# EAGLE library part STM32H743-XIO (library sjg-stm32)
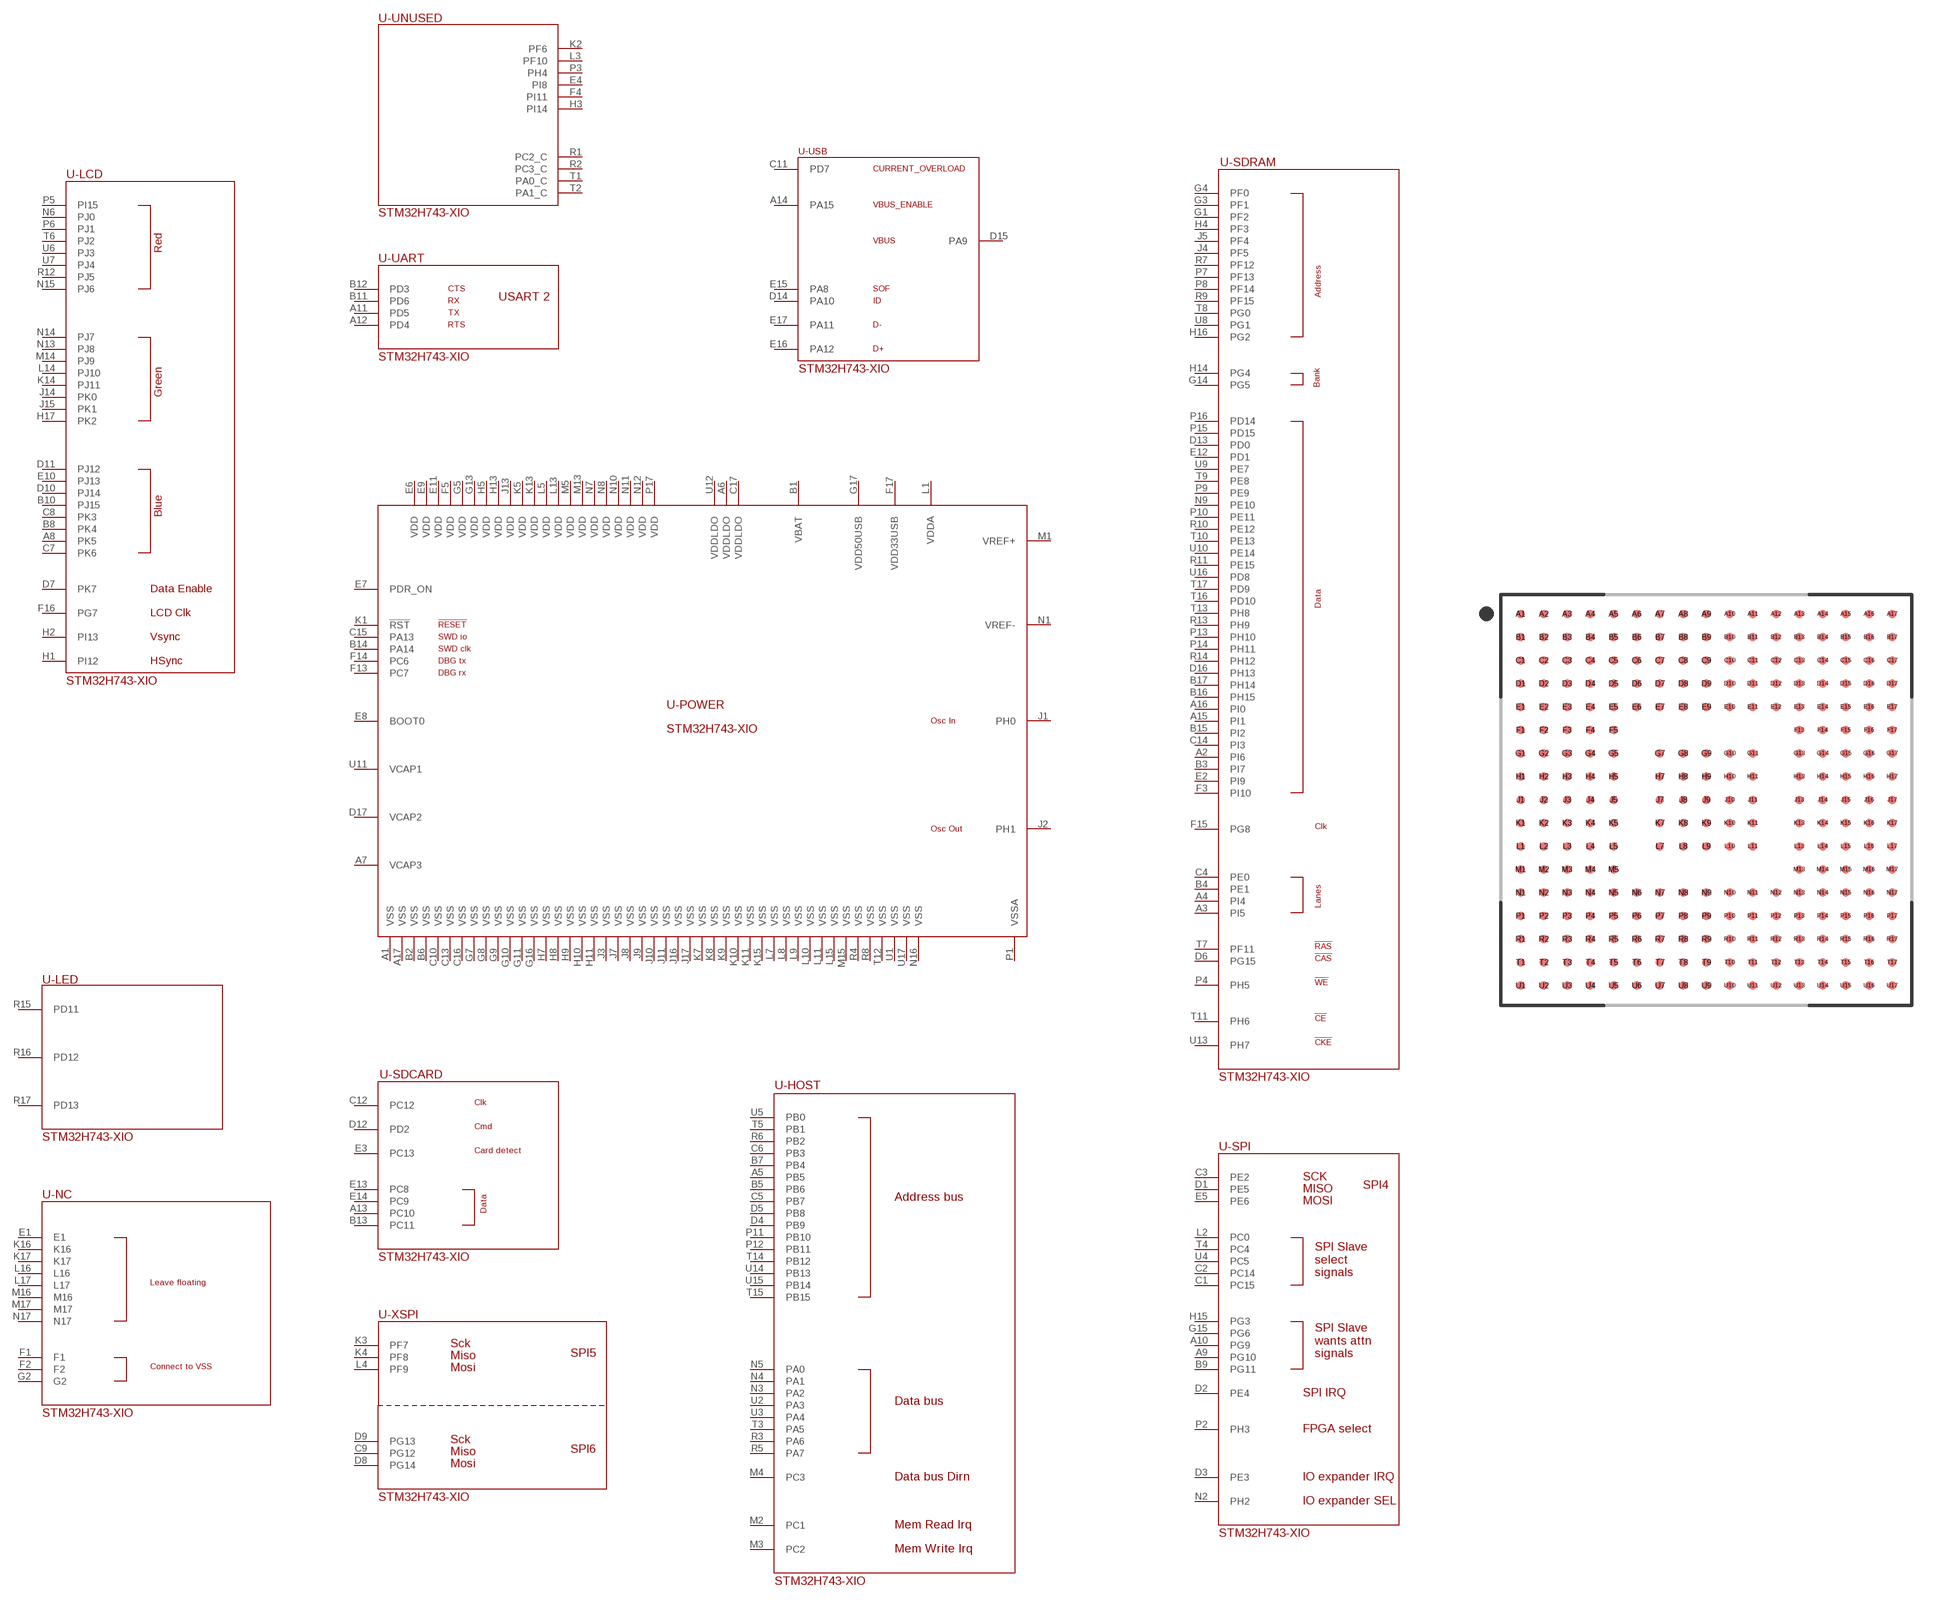
[diagram p8: symbol with the pads of BGA289C80P17X17_1400X1400X110; footprint BGA289C80P17X17_1400X1400X110]

Designator prefix -; gates -LED=STM32H743-XIO-LED -NC=STM32H743-XIO-NC -UART=STM32H743-XIO-USART -POWER=STM32H743-XIO-PWR -SDCARD=STM32H743-XIO-SDCARD -SDRAM=STM32H743-XIO-SDRAM -XSPI=STM32H743-XIO-XSPI -UNUSED=STM32H743-XIO-UNUSED -USB=STM32H743-XIO-USB -HOST=STM32H743-XIO-HOST -LCD=STM32H743-XIO-LCD -SPI=STM32H743-XIO-SPI

## STM32H743-XIO  [BGA289C80P17X17_1400X1400X110]
A1  -POWER:VSS
A2  -SDRAM:PI6
A3  -SDRAM:PI5
A4  -SDRAM:PI4
A5  -HOST:PB5
A6  -POWER:VDDLDO
A7  -POWER:VCAP3
A8  -LCD:PK5
A9  -SPI:PG10
A10  -SPI:PG9
A11  -UART:PD5
A12  -UART:PD4
A13  -SDCARD:PC10
A14  -USB:PA15
A15  -SDRAM:PI1
A16  -SDRAM:PI0
A17  -POWER:VSS
B1  -POWER:VBAT
B2  -POWER:VSS
B3  -SDRAM:PI7
B4  -SDRAM:PE1
B5  -HOST:PB6
B6  -POWER:VSS
B7  -HOST:PB4
B8  -LCD:PK4
B9  -SPI:PG11
B10  -LCD:PJ15
B11  -UART:PD6
B12  -UART:PD3
B13  -SDCARD:PC11
B14  -POWER:PA14
B15  -SDRAM:PI2
B16  -SDRAM:PH15
B17  -SDRAM:PH14
C1  -SPI:PC15
C2  -SPI:PC14
C3  -SPI:PE2
C4  -SDRAM:PE0
C5  -HOST:PB7
C6  -HOST:PB3
C7  -LCD:PK6
C8  -LCD:PK3
C9  -XSPI:PG12
C10  -POWER:VSS
C11  -USB:PD7
C12  -SDCARD:PC12
C13  -POWER:VSS
C14  -SDRAM:PI3
C15  -POWER:PA13
C16  -POWER:VSS
C17  -POWER:VDDLDO
D1  -SPI:PE5
D2  -SPI:PE4
D3  -SPI:PE3
D4  -HOST:PB9
D5  -HOST:PB8
D6  -SDRAM:PG15
D7  -LCD:PK7
D8  -XSPI:PG14
D9  -XSPI:PG13
D10  -LCD:PJ14
D11  -LCD:PJ12
D12  -SDCARD:PD2
D13  -SDRAM:PD0
D14  -USB:PA10
D15  -USB:PA9
D16  -SDRAM:PH13
D17  -POWER:VCAP2
E1  -NC:E1
E2  -SDRAM:PI9
E3  -SDCARD:PC13
E4  -UNUSED:PI8
E5  -SPI:PE6
E6  -POWER:VDD
E7  -POWER:PDR_ON
E8  -POWER:BOOT0
E9  -POWER:VDD
E10  -LCD:PJ13
E11  -POWER:VDD
E12  -SDRAM:PD1
E13  -SDCARD:PC8
E14  -SDCARD:PC9
E15  -USB:PA8
E16  -USB:PA12
E17  -USB:PA11
F1  -NC:F1
F2  -NC:F2
F3  -SDRAM:PI10
F4  -UNUSED:PI11
F5  -POWER:VDD
F13  -POWER:PC7
F14  -POWER:PC6
F15  -SDRAM:PG8
F16  -LCD:PG7
F17  -POWER:VDD33USB
G1  -SDRAM:PF2
G2  -NC:G2
G3  -SDRAM:PF1
G4  -SDRAM:PF0
G5  -POWER:VDD
G7  -POWER:VSS
G8  -POWER:VSS
G9  -POWER:VSS
G10  -POWER:VSS
G11  -POWER:VSS
G13  -POWER:VDD
G14  -SDRAM:PG5
G15  -SPI:PG6
G16  -POWER:VSS
G17  -POWER:VDD50USB
H1  -LCD:PI12
H2  -LCD:PI13
H3  -UNUSED:PI14
H4  -SDRAM:PF3
H5  -POWER:VDD
H7  -POWER:VSS
H8  -POWER:VSS
H9  -POWER:VSS
H10  -POWER:VSS
H11  -POWER:VSS
H13  -POWER:VDD
H14  -SDRAM:PG4
H15  -SPI:PG3
H16  -SDRAM:PG2
H17  -LCD:PK2
J1  -POWER:PH0
J2  -POWER:PH1
J3  -POWER:VSS
J4  -SDRAM:PF5
J5  -SDRAM:PF4
J7  -POWER:VSS
J8  -POWER:VSS
J9  -POWER:VSS
J10  -POWER:VSS
J11  -POWER:VSS
J13  -POWER:VDD
J14  -LCD:PK0
J15  -LCD:PK1
J16  -POWER:VSS
J17  -POWER:VSS
K1  -POWER:!RST!
K2  -UNUSED:PF6
K3  -XSPI:PF7
K4  -XSPI:PF8
K5  -POWER:VDD
K7  -POWER:VSS
K8  -POWER:VSS
K9  -POWER:VSS
K10  -POWER:VSS
K11  -POWER:VSS
K13  -POWER:VDD
K14  -LCD:PJ11
K15  -POWER:VSS
K16  -NC:K16
K17  -NC:K17
L1  -POWER:VDDA
L2  -SPI:PC0
L3  -UNUSED:PF10
L4  -XSPI:PF9
L5  -POWER:VDD
L7  -POWER:VSS
L8  -POWER:VSS
L9  -POWER:VSS
L10  -POWER:VSS
L11  -POWER:VSS
L13  -POWER:VDD
L14  -LCD:PJ10
L15  -POWER:VSS
L16  -NC:L16
L17  -NC:L17
M1  -POWER:VREF+
M2  -HOST:PC1
M3  -HOST:PC2
M4  -HOST:PC3
M5  -POWER:VDD
M13  -POWER:VDD
M14  -LCD:PJ9
M15  -POWER:VSS
M16  -NC:M16
M17  -NC:M17
N1  -POWER:VREF-
N2  -SPI:PH2
N3  -HOST:PA2
N4  -HOST:PA1
N5  -HOST:PA0
N6  -LCD:PJ0
N7  -POWER:VDD
N8  -POWER:VDD
N9  -SDRAM:PE10
N10  -POWER:VDD
N11  -POWER:VDD
N12  -POWER:VDD
N13  -LCD:PJ8
N14  -LCD:PJ7
N15  -LCD:PJ6
N16  -POWER:VSS
N17  -NC:N17
P1  -POWER:VSSA
P2  -SPI:PH3
P3  -UNUSED:PH4
P4  -SDRAM:PH5
P5  -LCD:PI15
P6  -LCD:PJ1
P7  -SDRAM:PF13
P8  -SDRAM:PF14
P9  -SDRAM:PE9
P10  -SDRAM:PE11
P11  -HOST:PB10
P12  -HOST:PB11
P13  -SDRAM:PH10
P14  -SDRAM:PH11
P15  -SDRAM:PD15
P16  -SDRAM:PD14
P17  -POWER:VDD
R1  -UNUSED:PC2_C
R2  -UNUSED:PC3_C
R3  -HOST:PA6
R4  -POWER:VSS
R5  -HOST:PA7
R6  -HOST:PB2
R7  -SDRAM:PF12
R8  -POWER:VSS
R9  -SDRAM:PF15
R10  -SDRAM:PE12
R11  -SDRAM:PE15
R12  -LCD:PJ5
R13  -SDRAM:PH9
R14  -SDRAM:PH12
R15  -LED:PD11
R16  -LED:PD12
R17  -LED:PD13
T1  -UNUSED:PA0_C
T2  -UNUSED:PA1_C
T3  -HOST:PA5
T4  -SPI:PC4
T5  -HOST:PB1
T6  -LCD:PJ2
T7  -SDRAM:PF11
T8  -SDRAM:PG0
T9  -SDRAM:PE8
T10  -SDRAM:PE13
T11  -SDRAM:PH6
T12  -POWER:VSS
T13  -SDRAM:PH8
T14  -HOST:PB12
T15  -HOST:PB15
T16  -SDRAM:PD10
T17  -SDRAM:PD9
U1  -POWER:VSS
U2  -HOST:PA3
U3  -HOST:PA4
U4  -SPI:PC5
U5  -HOST:PB0
U6  -LCD:PJ3
U7  -LCD:PJ4
U8  -SDRAM:PG1
U9  -SDRAM:PE7
U10  -SDRAM:PE14
U11  -POWER:VCAP1
U12  -POWER:VDDLDO
U13  -SDRAM:PH7
U14  -HOST:PB13
U15  -HOST:PB14
U16  -SDRAM:PD8
U17  -POWER:VSS

## Footprint BGA289C80P17X17_1400X1400X110 (pad centres in mm)
289-BGA, collapsing, 0.80 mm pitch, 14.00 X 14.00 X 1.10 mm body 289-pin collapsing BGA package with 0.80 mm col pitch and 0.80 mm row pitch with body size 14.00 X 14.00 X 1.10 mm
smd 0.29 x 0.29: A1 -6.4,6.4; A2 -5.6,6.4; A3 -4.8,6.4; A4 -4,6.4; A5 -3.2,6.4; A6 -2.4,6.4; A7 -1.6,6.4; A8 -0.8,6.4; A9 0,6.4; A10 0.8,6.4; A11 1.6,6.4; A12 2.4,6.4; A13 3.2,6.4; A14 4,6.4; A15 4.8,6.4; A16 5.6,6.4; A17 6.4,6.4; B1 -6.4,5.6; B2 -5.6,5.6; B3 -4.8,5.6; B4 -4,5.6; B5 -3.2,5.6; B6 -2.4,5.6; B7 -1.6,5.6; B8 -0.8,5.6; B9 0,5.6; B10 0.8,5.6; B11 1.6,5.6; B12 2.4,5.6; B13 3.2,5.6; B14 4,5.6; B15 4.8,5.6; B16 5.6,5.6; B17 6.4,5.6; C1 -6.4,4.8; C2 -5.6,4.8; C3 -4.8,4.8; C4 -4,4.8; C5 -3.2,4.8; C6 -2.4,4.8; C7 -1.6,4.8; C8 -0.8,4.8; C9 0,4.8; C10 0.8,4.8; C11 1.6,4.8; C12 2.4,4.8; C13 3.2,4.8; C14 4,4.8; C15 4.8,4.8; C16 5.6,4.8; C17 6.4,4.8; D1 -6.4,4; D2 -5.6,4; D3 -4.8,4; D4 -4,4; D5 -3.2,4; D6 -2.4,4; D7 -1.6,4; D8 -0.8,4; D9 0,4; D10 0.8,4; D11 1.6,4; D12 2.4,4; D13 3.2,4; D14 4,4; D15 4.8,4; D16 5.6,4; D17 6.4,4; E1 -6.4,3.2; E2 -5.6,3.2; E3 -4.8,3.2; E4 -4,3.2; E5 -3.2,3.2; E6 -2.4,3.2; E7 -1.6,3.2; E8 -0.8,3.2; E9 0,3.2; E10 0.8,3.2; E11 1.6,3.2; E12 2.4,3.2; E13 3.2,3.2; E14 4,3.2; E15 4.8,3.2; E16 5.6,3.2; E17 6.4,3.2; F1 -6.4,2.4; F2 -5.6,2.4; F3 -4.8,2.4; F4 -4,2.4; F5 -3.2,2.4; F13 3.2,2.4; F14 4,2.4; F15 4.8,2.4; F16 5.6,2.4; F17 6.4,2.4; G1 -6.4,1.6; G2 -5.6,1.6; G3 -4.8,1.6; G4 -4,1.6; G5 -3.2,1.6; G7 -1.6,1.6; G8 -0.8,1.6; G9 0,1.6; G10 0.8,1.6; G11 1.6,1.6; G13 3.2,1.6; G14 4,1.6; G15 4.8,1.6; G16 5.6,1.6; G17 6.4,1.6; H1 -6.4,0.8; H2 -5.6,0.8; H3 -4.8,0.8; H4 -4,0.8; H5 -3.2,0.8; H7 -1.6,0.8; H8 -0.8,0.8; H9 0,0.8; H10 0.8,0.8; H11 1.6,0.8; H13 3.2,0.8; H14 4,0.8; H15 4.8,0.8; H16 5.6,0.8; H17 6.4,0.8; J1 -6.4,0; J2 -5.6,0; J3 -4.8,0; J4 -4,0; J5 -3.2,0; J7 -1.6,0; J8 -0.8,0; J9 0,0; J10 0.8,0; J11 1.6,0; J13 3.2,0; J14 4,0; J15 4.8,0; J16 5.6,0; J17 6.4,0; K1 -6.4,-0.8; K2 -5.6,-0.8; K3 -4.8,-0.8; K4 -4,-0.8; K5 -3.2,-0.8; K7 -1.6,-0.8; K8 -0.8,-0.8; K9 0,-0.8; K10 0.8,-0.8; K11 1.6,-0.8; K13 3.2,-0.8; K14 4,-0.8; K15 4.8,-0.8; K16 5.6,-0.8; K17 6.4,-0.8; L1 -6.4,-1.6; L2 -5.6,-1.6; L3 -4.8,-1.6; L4 -4,-1.6; L5 -3.2,-1.6; L7 -1.6,-1.6; L8 -0.8,-1.6; L9 0,-1.6; L10 0.8,-1.6; L11 1.6,-1.6; L13 3.2,-1.6; L14 4,-1.6; L15 4.8,-1.6; L16 5.6,-1.6; L17 6.4,-1.6; M1 -6.4,-2.4; M2 -5.6,-2.4; M3 -4.8,-2.4; M4 -4,-2.4; M5 -3.2,-2.4; M13 3.2,-2.4; M14 4,-2.4; M15 4.8,-2.4; M16 5.6,-2.4; M17 6.4,-2.4; N1 -6.4,-3.2; N2 -5.6,-3.2; N3 -4.8,-3.2; N4 -4,-3.2; N5 -3.2,-3.2; N6 -2.4,-3.2; N7 -1.6,-3.2; N8 -0.8,-3.2; N9 0,-3.2; N10 0.8,-3.2; N11 1.6,-3.2; N12 2.4,-3.2; N13 3.2,-3.2; N14 4,-3.2; N15 4.8,-3.2; N16 5.6,-3.2; N17 6.4,-3.2; P1 -6.4,-4; P2 -5.6,-4; P3 -4.8,-4; P4 -4,-4; P5 -3.2,-4; P6 -2.4,-4; P7 -1.6,-4; P8 -0.8,-4; P9 0,-4; P10 0.8,-4; P11 1.6,-4; P12 2.4,-4; P13 3.2,-4; P14 4,-4; P15 4.8,-4; P16 5.6,-4; P17 6.4,-4; R1 -6.4,-4.8; R2 -5.6,-4.8; R3 -4.8,-4.8; R4 -4,-4.8; R5 -3.2,-4.8; R6 -2.4,-4.8; R7 -1.6,-4.8; R8 -0.8,-4.8; R9 0,-4.8; R10 0.8,-4.8; R11 1.6,-4.8; R12 2.4,-4.8; R13 3.2,-4.8; R14 4,-4.8; R15 4.8,-4.8; R16 5.6,-4.8; R17 6.4,-4.8; T1 -6.4,-5.6; T2 -5.6,-5.6; T3 -4.8,-5.6; T4 -4,-5.6; T5 -3.2,-5.6; T6 -2.4,-5.6; T7 -1.6,-5.6; T8 -0.8,-5.6; T9 0,-5.6; T10 0.8,-5.6; T11 1.6,-5.6; T12 2.4,-5.6; T13 3.2,-5.6; T14 4,-5.6; T15 4.8,-5.6; T16 5.6,-5.6; T17 6.4,-5.6; U1 -6.4,-6.4; U2 -5.6,-6.4; U3 -4.8,-6.4; U4 -4,-6.4; U5 -3.2,-6.4; U6 -2.4,-6.4; U7 -1.6,-6.4; U8 -0.8,-6.4; U9 0,-6.4; U10 0.8,-6.4; U11 1.6,-6.4; U12 2.4,-6.4; U13 3.2,-6.4; U14 4,-6.4; U15 4.8,-6.4; U16 5.6,-6.4; U17 6.4,-6.4